# Altium schematic symbol library SBC846BWT1G.SchLib: 1 symbol
Pins are listed as number, name and electrical type; pins without a type are passive.

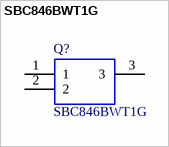
[diagram p0: symbol SBC846BWT1G]

## SBC846BWT1G
designator Q?
ON SEMICONDUCTOR - SBC846BWT1G - TRANSISTOR, BIPOL, NPN, 65V; Geometry.Height: 1.08mm; Manufacturer_Name: ON Semiconductor; Manufacturer_Part_Number: SBC846BWT1G; RS Part Number: *; RS Price/Stock: *; Arrow Part Number: SBC846BWT1G; Arrow Price/Stock: https://www.arrow.com/en/products/sbc846bwt1g/on-semiconductor; Datasheet Link: http://www.farnell.com/datasheets/2039798.pdf
footprint SOT65P210X108-3N
pins: 1, 2, 3